# Altium schematic symbol library SN74LVC1G17DCKR.SchLib: 1 symbol
Pins are listed as number, name and electrical type; pins without a type are passive.

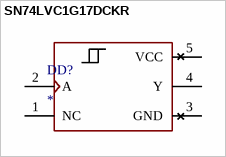
[diagram p0: symbol SN74LVC1G17DCKR]

## SN74LVC1G17DCKR
designator DD?
Single Schmitt-Trigger Buffer 5-SC70 -40 to 125; MP: SN74LVC1G17DCKR; MF: Texas Instruments; Package: SOT-SC70-5 Texas Instruments; Value: *; SnapEDA_Link: https://www.snapeda.com/parts/SN74LVC1G17DCKR/Texas%20Instruments/view-part/294145/?ref=snap; Texas_Instruments-Purchase-URL: https://snapeda.com/shop?store=Texas+Instruments&id=294145
pins: 1 NC, 2 A, 3 GND (power), 4 Y, 5 VCC (power)